# Altium integrated library 301.IntLib: 4 symbols
Pins are listed as number, name and electrical type; pins without a type are passive.

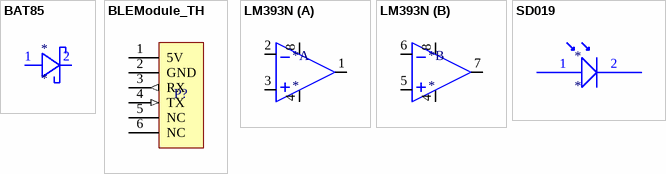
[diagram p0: symbols BAT85 to SD019]

## BAT85
designator *
footprint BAT85
pins: 1, 2

## BLEModule_TH
designator P?, comment BLE Module Header  (value not drawn)
2.54mm pitch 6-pin header for BLE module; LatestRevisionDate: 17-Jul-2002; LatestRevisionNote: Re-released for DXP Platform.; Publisher: Altium Limited
footprint HM10_HDR1X6 (Connector; Header; 6 Position)
pins: 1 5V, 2 GND, 3 RX (out), 4 TX (in), 5 NC, 6 NC

## LM393N
designator *
footprint ECE-DIP8
part A pins: 1, 2, 3, 4, 8
part B pins: 4, 5, 6, 7, 8

## SD019
designator *
footprint SD019
pins: 1, 2